# EAGLE library part LT1167 (library foo)
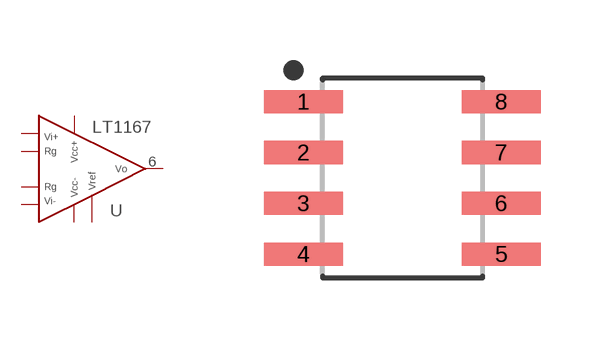
[diagram p2: symbol with the pads of SOIC127P600X175-8; footprint SOIC127P600X175-8]

Designator prefix U

## LT1167-8SOT  [SOIC127P600X175-8]
1  RG  pas
2  VI-
3  VI+
4  VS-  pwr
5  VREF
6  VO
7  VS+  pwr
8  RG  pas

## Footprint SOIC127P600X175-8 (pad centres in mm)
8-SOIC, 1.27 mm pitch, 6.00 mm span, 4.90 X 3.90 X 1.75 mm body 8-pin SOIC package with 1.27 mm pitch, 6.00 mm span with body size 4.90 X 3.90 X 1.75 mm
smd 1.968 x 0.58: 1 -2.473,1.905; 2 -2.473,0.635; 3 -2.473,-0.635; 4 -2.473,-1.905; 5 2.473,-1.905; 6 2.473,-0.635; 7 2.473,0.635; 8 2.473,1.905